# Altium footprint library OASIS_COMPONENTS_FOOTPRINTS.PcbLib: 59 footprints (part 4 of 4)
Each footprint in its own frame and in the unit in brackets; x right, y up, seen from the top. Pads: shape width x height; smd on the part's side, far side on the other; paste and mask are expansions set on the pad; w line width, h text height; cw(c..) or ccw(c..) is an arc to the next point about the centre after c.
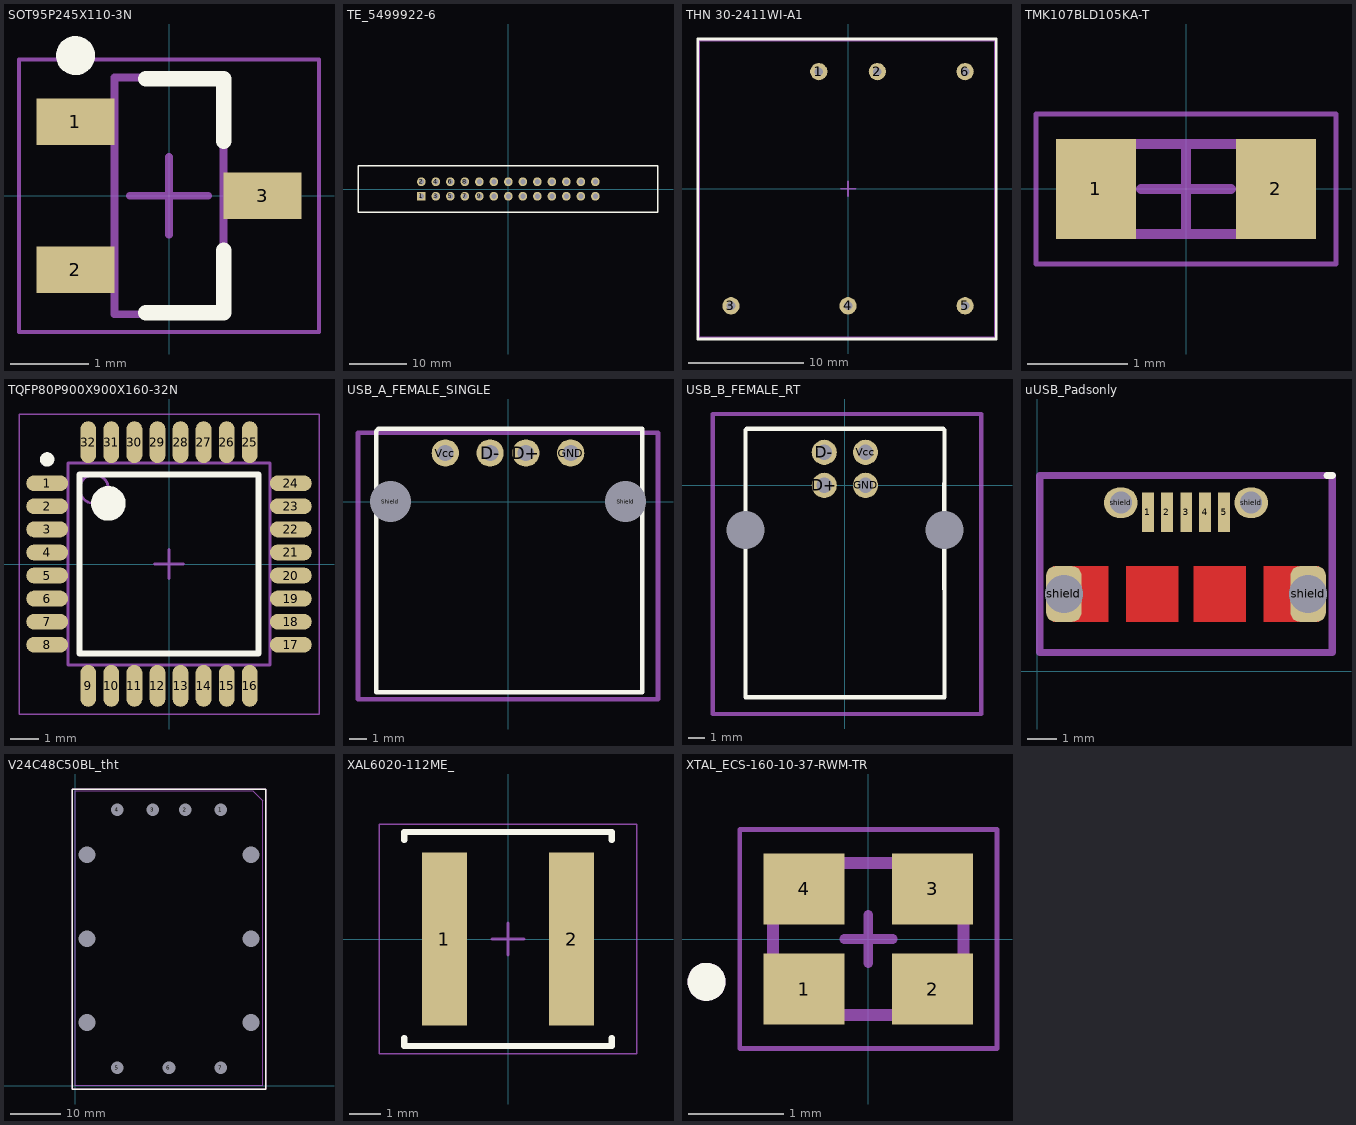
[diagram p3: the footprints below, top view; thin cyan lines are the x and y axes]

## SOT95P245X110-3N [mm] "SOT23, 3-Leads, Body 2.92x2.45mm, Pitch 0.95mm, IPC Medium Density"
height 1.1
pads (3):
  rect 1x0.6 smd: 1(-1.2,0.95) 2(-1.2,-0.95) 3(1.2,0)
Top Overlay:
  circle w0.25: c-1.2,1.8 r0.125
  lines w0.2: -0.3,-1.5 0.7,-1.5 0.7,-0.7 ; -0.3,1.5 0.7,1.5 0.7,0.7
Courtyard:
  lines w0.05: -1.925,-1.75 1.925,-1.75 1.925,1.75 -1.925,1.75 -1.925,-1.75
Component Center:
  lines w0.1: -0.5,0 0.5,0 ; 0,-0.5 0,0.5
Component Outline:
  lines w0.1: -0.7,-1.52 0.7,-1.52 0.7,1.52 -0.7,1.52 -0.7,-1.52
3D body "SOT95P245X110-3N.step": height 1.1, standoff 0, extent -1.3,-1.52 1.3,1.52

## TE_5499922-6 [mil] "AMP-LATCH Universal Headers 26 Pos"
height 377.95
pads (26):
  rect 60x60 hole 35: 1(-600,-50)
  round 60 hole 35: 2(-600,50) 3(-500,-50) 4(-500,50) 5(-400,-50) 6(-400,50) 7(-300,-50) 8(-300,50) 9(-200,-50) 10(-200,50) 11(-100,-50) 12(-100,50) 13(0,-50) 14(0,50) 15(100,-50) 16(100,50) 17(200,-50) 18(200,50) 19(300,-50) 20(300,50) 21(400,-50) 22(400,50) 23(500,-50) 24(500,50) 25(600,-50) 26(600,50)
Top Overlay:
  lines w10: -1037,-160 -1037,160 1032,160 1032,-160 -1037,-160
3D body "c-5499922-6-a-3d.stp": height 1061, standoff -104, extent -1030,-156.5 1030,179.5

## THN 30-2411WI-A1 [mm]
pads (6):
  round 1.5 hole 0.75 paste+0: 1(-2.54,10.16) 2(2.54,10.16) 3(-10.16,-10.16) 4(0,-10.16) 5(10.16,-10.16) 6(10.16,10.16)
Top Overlay:
  lines w0.254: -13.047,-13.041 12.861,-13.041 12.861,12.994 -13.047,12.994 -13.047,-13.041
Component Center:
  lines w0.152: 0,0.635 0,-0.635 0,0 ; 0,0 -0.635,0 0.635,0 0,0
Component Outline:
  lines w0.152: -12.92,-12.914 12.734,-12.914 12.734,12.867 -12.92,12.867 -12.92,-12.914
3D body "thn10wir_3d_drawing.step": height 10.2, standoff -5.3, extent -12.793,-12.66 12.607,12.74

## TMK107BLD105KA-T [mm] "1uF Chip Capacitor, RS422, 2-Leads, Body 1.60x0.80mm, IPC Medium Density"
height 0.5
pads (2):
  rect 0.8x1 smd: 1(-0.9,0) 2(0.9,0)
Dimensions:
  lines w0.1: -0.88,-0.45 -0.88,0.45 0.88,0.45 0.88,-0.45 -0.88,-0.45
Component Outline:
  lines w0.05: -1.5,-0.75 -1.5,0.75 1.5,0.75 1.5,-0.75 -1.5,-0.75
  lines w0.1: -0.45,0 0.45,0 ; 0,-0.45 0,0.45
3D body "CAPC1608X05N.step": height 0.5, standoff 0, extent -0.88,-0.45 0.88,0.45

## TQFP80P900X900X160-32N [mm] "TQFP, 32-Leads, Body 7.00x7.00mm, Pitch 0.80mm, IPC Medium Density"
height 1.6
pads (32):
  oval 1.45x0.55 smd: 1(-4.225,2.8) 2(-4.225,2) 3(-4.225,1.2) 4(-4.225,0.4) 5(-4.225,-0.4) 6(-4.225,-1.2) 7(-4.225,-2) 8(-4.225,-2.8) 17(4.225,-2.8) 18(4.225,-2) 19(4.225,-1.2) 20(4.225,-0.4) 21(4.225,0.4) 22(4.225,1.2) 23(4.225,2) 24(4.225,2.8)
  oval 0.55x1.45 smd: 9(-2.8,-4.225) 10(-2,-4.225) 11(-1.2,-4.225) 12(-0.4,-4.225) 13(0.4,-4.225) 14(1.2,-4.225) 15(2,-4.225) 16(2.8,-4.225) 25(2.8,4.225) 26(2,4.225) 27(1.2,4.225) 28(0.4,4.225) 29(-0.4,4.225) 30(-1.2,4.225) 31(-2,4.225) 32(-2.8,4.225)
Top Overlay:
  circle w0.25: c-4.225,3.625 r0.125
  circle w0.6: c-2.1,2.1 r0.3
  lines w0.2: -3.1,-3.1 -3.1,3.1 3.1,3.1 3.1,-3.1 -3.1,-3.1
Courtyard:
  lines w0.05: -5.2,-5.2 -5.2,5.2 5.2,5.2 5.2,-5.2 -5.2,-5.2
Component Center:
  lines w0.1: -0.5,0 0.5,0 ; 0,-0.5 0,0.5
Component Outline:
  circle w0.1: c-2.6,2.6 r0.5
  lines w0.1: -3.5,-3.5 -3.5,3.5 3.5,3.5 3.5,-3.5 -3.5,-3.5
3D body "TQFP80P900X900X160-32N.step": height 1.6, standoff 0, extent -4.5,-4.5 4.5,4.5

## USB_A_FEMALE_SINGLE [mm] "A horizontally oriented, USB type A receptacle."
pads (6):
  round 1.524 hole 0.92: D+(1,2.71) D-(-1,2.71) GND(3.5,2.71) Vcc(-3.5,2.71)
  round 1.524 hole 2.3 paste+2 mask+0.202: Shield(-6.57,0)
  round 1.524 hole 2.3 mask+0.202: Shield(6.57,0)
Top Overlay:
  lines w0.254: -7.366,-10.668 7.493,-10.668 7.493,4.064 -7.239,4.064 -7.366,3.937 -7.366,-10.668
Courtyard:
  lines w0.254: -8.382,-11.049 -8.382,3.85 8.382,3.85 8.382,-11.049 -8.382,-11.049
3D body: height 7.12, standoff 0, extent -7.255,-10.668 7.255,3.85

## USB_B_FEMALE_RT [mm] "USB Type B female receptacle, right angle"
pads (6):
  round 1.524 hole 0.92: D+(-1.25,0) D-(-1.25,2) GND(1.25,0) Vcc(1.25,2)
  round 1.524 hole 2.3 mask+0.204: Shield(-6.025,-2.71) Shield(6.025,-2.71)
Top Overlay:
  lines w0.254: -6.02,3.353 -6.02,-12.827 6.025,-12.827 6.02,0.127 ; -5.944,3.429 5.954,3.429 ; 6.025,-2.71 6.025,3.358
Courtyard:
  lines w0.254: -8.001,-13.843 -8.001,-2.626 -8.001,4.318 8.255,4.318 8.255,-13.462 8.255,-13.843 -8.001,-13.843
3D body: height 10.62, standoff -2.9, extent -7.239,-10.795 -7.239,-10.795
3D body: height 10.62, standoff 0, extent -6.02,-12.893 6.02,3.429

## uUSB_Padsonly [mm] "MicroUSB Connection - through hole pads only"
pads (9):
  rect 0.4x1.35 smd paste+0 mask+0.102: 1(3.78,5.421) 2(4.43,5.421) 3(5.087,5.421) 4(5.73,5.421) 5(6.38,5.421)
  rrect50% 1.2x1.9 hole 1.3: shield(0.905,2.635) shield(9.255,2.635)
  rrect100% 1.15x1.05 hole 0.75 paste+0: shield(2.855,5.755)
  rrect100% 1.15x1.05 hole 0.75: shield(7.305,5.755)
Top Layer:
  region: 9.63,3.585 7.73,3.585 7.73,1.685 9.63,1.685
  rectangle: 0.53,1.685 2.43,3.585
  rectangle: 3.03,1.685 4.83,3.585
  rectangle: 5.33,1.685 7.13,3.585
Top Overlay:
  lines w0.254: 9.906,6.684 10.08,6.684
Courtyard:
  lines w0.254: 9.906,6.684 0.08,6.684 0.08,0.635 10.08,0.635 10.08,6.684
3D body: height 3, standoff 0, extent 1.333,0 8.826,5.588

## V24C48C50BL_tht [mil] "THT V24C48C50BL footprint"
pads (13):
  oval 59.06x60 hole 97: 1(1125,2140) 2(850,2140) 3(600,2140) 4(325,2140) 5(325,140) 7(1125,140)
  oval 59.06x60 hole 97 paste+5: 6(725,140)
  round 59.06 hole 129 mask+20: BASE(90,490) BASE(90,1140) BASE(1360,1790)
  round 59.06 hole 129 paste+5 mask+20: BASE(90,1790) BASE(1360,490) BASE(1360,1140)
Top Overlay:
  lines w10: -25,-25 -25,2300 1475,2300 1475,-20 1475,-25 1465,-25 -25,-25
Courtyard:
  lines w10: -25,-25 1475,-25 1475,2300 -25,2300 -25,-25
Component Outline:
  lines w5.98: 0,5 1450,5 1450,2210 1375,2285 0,2285 0,5
Multi-Layer:
  circle w30: c725,140 r60
  circle w30: c1125,140 r60
  circle w30: c325,140 r60
  circle w30: c850,2140 r60
  circle w30: c325,2140 r60
  circle w30: c1125,2140 r60
  circle w30: c600,2140 r60
  circle w30: c1360,1140 r75
  circle w30: c90,1790 r75
  circle w30: c1360,490 r75
  circle w30: c90,1140 r75
  circle w30: c90,490 r75
  circle w30: c1360,1790 r75
3D body "37207r1-VxxCxxxxxxBL3P.STP": height 525, standoff -106.68, extent 0,5 1450,2285
3D body: height 325, standoff 0, extent 15,1065.13 165,1214.87
3D body: height 325, standoff 0, extent 15,1715.12 165,1864.87
3D body: height 325, standoff 0, extent 1285,1715.13 1435,1864.88
3D body: height 325, standoff 0, extent 1285,1065 1435,1214.75
3D body: height 325, standoff 0, extent 1285,415.13 1435,564.87
3D body: height 325, standoff 0, extent 15,415.13 165,564.87

## XAL6020-112ME_ [mm] "Precision Wire Wound Inductor, 2-Leads, Body 6.36x6.56mm, IPC Medium Density"
height 2.1
pads (2):
  rect 1.43x5.5 smd: 1(-2.02,0) 2(2.02,0)
Top Overlay:
  lines w0.2: -3.3,-3.15 -3.3,-3.4 3.3,-3.4 3.3,-3.15 ; -3.3,3.15 -3.3,3.4 3.3,3.4 3.3,3.15
Courtyard:
  lines w0.05: -4.1,-3.65 -4.1,3.65 4.1,3.65 4.1,-3.65 -4.1,-3.65
Component Center:
  lines w0.1: -0.5,0 0.5,0 ; 0,-0.5 0,0.5
3D body "XAL6020-112ME_.step": height 2.2, standoff 0, extent -3.28,-3.28 3.28,3.28

## XTAL_ECS-160-10-37-RWM-TR [mm]
pads (4):
  rect 0.85x0.75 smd: 1(-0.675,-0.525) 2(0.675,-0.525) 3(0.675,0.525) 4(-0.675,0.525)
Top Overlay:
  circle w0.2: c-1.7,-0.45 r0.1
Courtyard:
  lines w0.05: -1.35,-1.15 -1.35,1.15 1.35,1.15 1.35,-1.15 -1.35,-1.15
Component Center:
  lines w0.1: -0.254,0 0.254,0 0,0 ; 0,0 0,-0.254 0,0.254 0,0
Component Outline:
  circle w0.2: c-1.7,-0.45 r0.1
  lines w0.127: -1,-0.8 -1,0.8 1,0.8 1,-0.8 -1,-0.8
3D body "ECS-160-10-37-RWM-TR--3DModel-STEP-40055.STEP": height 0.55, standoff 0, extent -0.975,-0.8 1.025,0.8